# EAGLE library part XS03-4S (library connectors)
Shielded connector, 3 pins, 4 shield pins
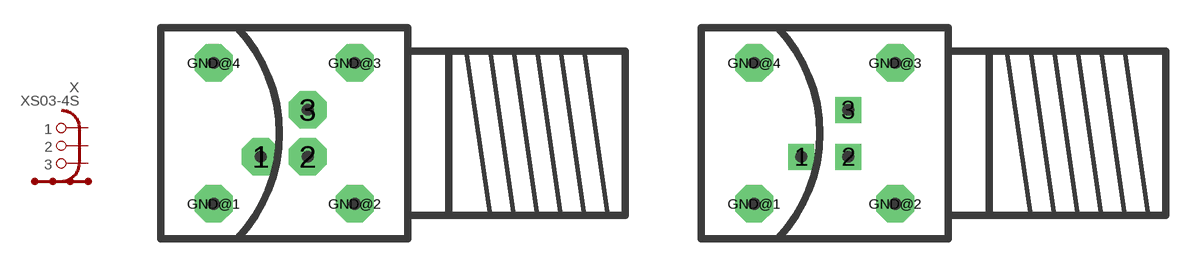
[diagram p74: symbol with the pads of XS03-LEMON; footprints XS03-LEMON, XS03-LEMOR]

Designator prefix X

## XS03-4S-LEMON  [XS03-LEMON]
1  1
2  2
3  3
GND@1  GND
GND@2  GND
GND@3  GND
GND@4  GND

## XS03-4S-LEMOR  [XS03-LEMOR]
Pads as for XS03-LEMON

## Footprint XS03-LEMON (pad centres in mm)
LEMO connector 0B, 3 pins Connector center 6.9mm above PCB surface - LEMO: EXG.0B.303.HLN
drill 0.813 pad 2.032 octagon: 1 -1.27,-1.27; 2 1.27,-1.27; 3 1.27,1.27; GND@1 -3.81,-3.81; GND@2 3.81,-3.81; GND@3 3.81,3.81; GND@4 -3.81,3.81

## Footprint XS03-LEMOR (pad centres in mm)
LEMO connector 0B, 3 pins, reduced pads Connector center 6.9mm above PCB surface - LEMO: EXG.0B.303.HLN
drill 0.813 pad 1.397 square: 1 -1.27,-1.27; 2 1.27,-1.27; 3 1.27,1.27
drill 0.813 pad 2.032 octagon: GND@1 -3.81,-3.81; GND@2 3.81,-3.81; GND@3 3.81,3.81; GND@4 -3.81,3.81